# Altium footprint library JST_S2B-XH-A(LF)(SN).PcbLib: 1 footprints
Each footprint in its own frame and in the unit in brackets; x right, y up, seen from the top. Pads: shape width x height; smd on the part's side, far side on the other; paste and mask are expansions set on the pad; w line width, h text height; cw(c..) or ccw(c..) is an arc to the next point about the centre after c.
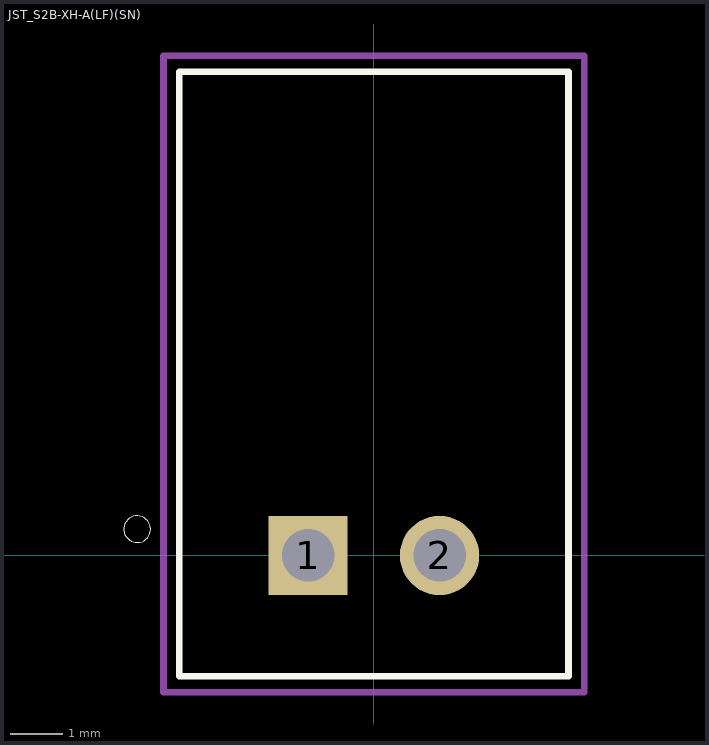
[diagram p0: the footprint, top view; thin cyan lines are the x and y axes]

## JST_S2B-XH-A(LF)(SN) [mm]
pads (2):
  rect 1.508x1.508 / inner round 1.508 / far side rect 1.508x1.508 hole 1: 1(-1.25,0)
  round 1.508 hole 1: 2(1.25,0)
Top Overlay:
  circle w0: c-4.5,0.5 r0.254
  lines w0.127: -3.7,-2.3 3.7,-2.3 3.7,9.2 -3.7,9.2 -3.7,-2.3
Mechanical 15:
  lines w0.127: -4,-2.6 4,-2.6 4,9.5 -4,9.5 -4,-2.6
3D body "step_temp.STEP": height 6.1, standoff -3.4, extent -3.7,-5.75 3.7,5.75